# EAGLE library part ASE6024_6PDT_SLIDE_SWITCH (library jyandev)
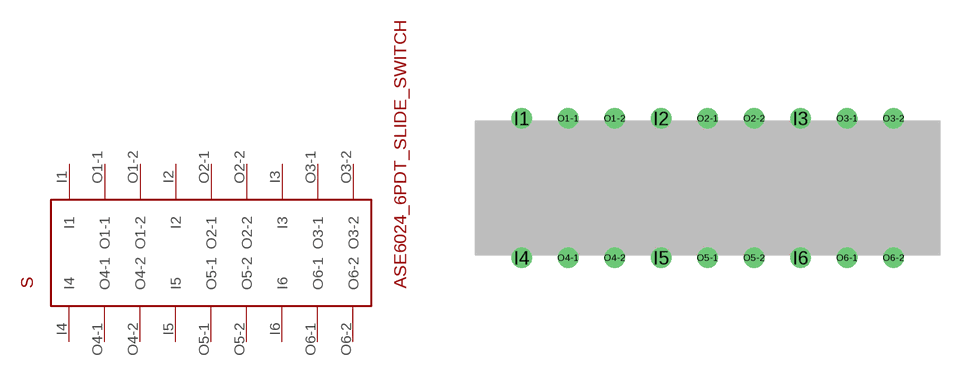
[diagram p1: symbol with the pads of ASE6204_6PDT_SLIDE_SWITCH; footprint ASE6204_6PDT_SLIDE_SWITCH]

Designator prefix S

## ASE6024_6PDT_SLIDE_SWITCH  [ASE6204_6PDT_SLIDE_SWITCH]
I1  I1  in
I2  I2  in
I3  I3  in
I4  I4  in
I5  I5  in
I6  I6  in
O1-1  O1-1  out
O1-2  O1-2  out
O2-1  O2-1  out
O2-2  O2-2  out
O3-1  O3-1  out
O3-2  O3-2  out
O4-1  O4-1  out
O4-2  O4-2  out
O5-1  O5-1  out
O5-2  O5-2  out
O6-1  O6-1  out
O6-2  O6-2  out

## Footprint ASE6204_6PDT_SLIDE_SWITCH (pad centres in mm)
ASE6204 6PDT Slide Switch Usage Pins are named I# and O#-#. The I# stands for the #th input. The O#-# stands for the #th output of the #th input. All inputs have their values output at only one of their matching #th outputs. When the switch is slid, all inputs have their values output at only the other matching #th output.
drill 0.6: I1 0,0; I2 7.62,0; I3 15.24,0; I4 0,-7.62; I5 7.62,-7.62; I6 15.24,-7.62; O1-1 2.54,0; O1-2 5.08,0; O2-1 10.16,0; O2-2 12.7,0; O3-1 17.78,0; O3-2 20.32,0; O4-1 2.54,-7.62; O4-2 5.08,-7.62; O5-1 10.16,-7.62; O5-2 12.7,-7.62; O6-1 17.78,-7.62; O6-2 20.32,-7.62